# Altium footprint library TSM102C3.PcbLib: 1 footprints
Each footprint in its own frame and in the unit in brackets; x right, y up, seen from the top. Pads: shape width x height; smd on the part's side, far side on the other; paste and mask are expansions set on the pad; w line width, h text height; cw(c..) or ccw(c..) is an arc to the next point about the centre after c.
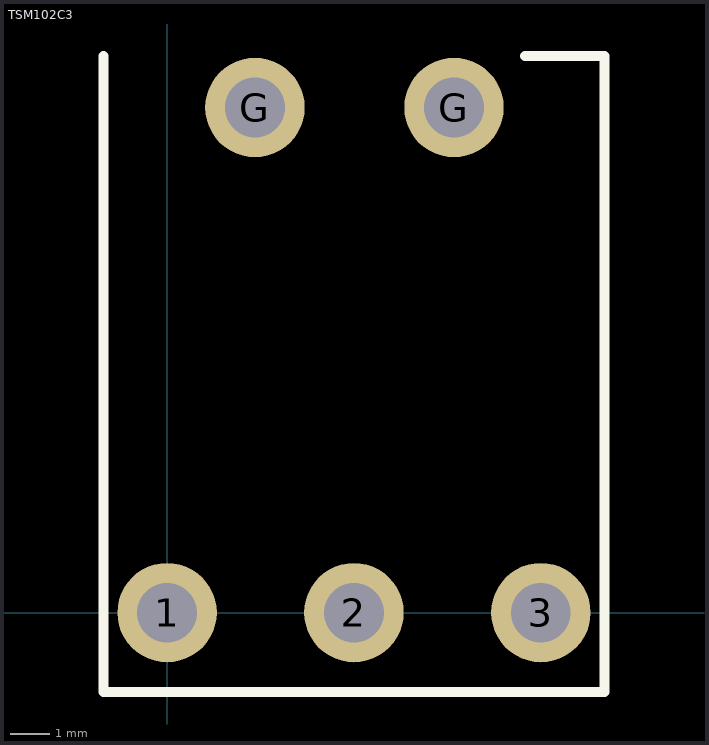
[diagram p0: the footprint, top view; thin cyan lines are the x and y axes]

## TSM102C3 [mm]
pads (5):
  round 2.5 hole 1.5: 1(0,0) 2(4.699,0) 3(9.398,0) G(2.21,12.7) G(7.214,12.7)
Top Overlay:
  lines w0.254: -1.6,14 -1.6,-2 11,-2 11,14 9,14
3D body "5232wcdb v3.step": height 8.47, standoff -2.28, extent -1.9,-0.65 11.3,34.151